# EAGLE library part MA05-2 (library all-connectors)
PIN HEADER
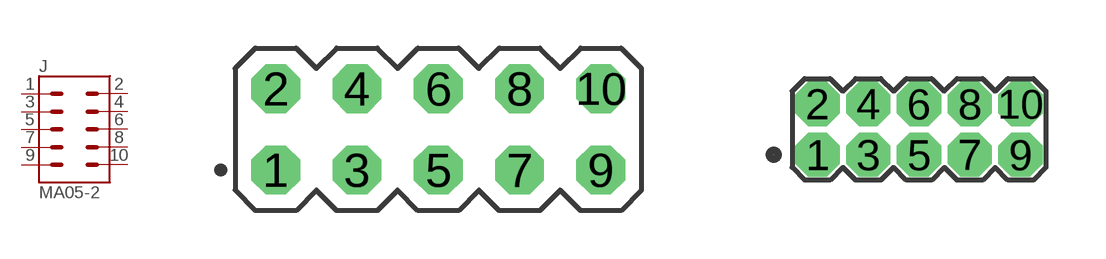
[diagram p2: symbol with the pads of MA05-2_TH_2.54MM; footprints MA05-2_TH_2.54MM, MA05-2_TH_1.27MM]

Designator prefix J

## MA05-2_TH_2.54MM  [MA05-2_TH_2.54MM]
1  1  pas
2  2  pas
3  3  pas
4  4  pas
5  5  pas
6  6  pas
7  7  pas
8  8  pas
9  9  pas
10  10  pas

## MA05-2_TH_1.27MM  [MA05-2_TH_1.27MM]
Pads as for MA05-2_TH_2.54MM

## MA05-2_SMD_1.27MM  [MA05-2_SMD_1.27MM]
Pads as for MA05-2_TH_2.54MM

## MA05-2_TH_SRH_2.54MM  [MA05-2_TH_SHR_2.54MM]
Pads as for MA05-2_TH_2.54MM

## Footprint MA05-2_TH_2.54MM (pad centres in mm)
PIN HEADER
drill 1.016 octagon: 1 -5.08,-1.27; 2 -5.08,1.27; 3 -2.54,-1.27; 4 -2.54,1.27; 5 0,-1.27; 6 0,1.27; 7 2.54,-1.27; 8 2.54,1.27; 9 5.08,-1.27; 10 5.08,1.27

## Footprint MA05-2_TH_1.27MM (pad centres in mm)
PIN HEADER
drill 0.6 octagon: 1 -2.54,-0.635; 2 -2.54,0.635; 3 -1.27,-0.635; 4 -1.27,0.635; 5 0,-0.635; 6 0,0.635; 7 1.27,-0.635; 8 1.27,0.635; 9 2.54,-0.635; 10 2.54,0.635

## Footprint MA05-2_SMD_1.27MM (pad centres in mm)
smd 0.76 x 2.4: 1 -2.54,-1.95; 2 -2.54,1.95; 3 -1.27,-1.95; 4 -1.27,1.95; 5 0,-1.95; 6 0,1.95; 7 1.27,-1.95; 8 1.27,1.95; 9 2.54,-1.95; 10 2.54,1.95

## Footprint MA05-2_TH_SHR_2.54MM (pad centres in mm)
PIN HEADER
drill 1.016 octagon: 1 -5.08,-1.27; 2 -5.08,1.27; 3 -2.54,-1.27; 4 -2.54,1.27; 5 0,-1.27; 6 0,1.27; 7 2.54,-1.27; 8 2.54,1.27; 9 5.08,-1.27; 10 5.08,1.27